# Altium schematic symbol library test_point.SchLib: 1 symbol
Pins are listed as number, name and electrical type; pins without a type are passive.

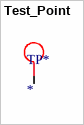
[diagram p0: symbol Test_Point]

## Test_Point
designator TP*
footprint Test_Point
pins: 0 test